# EAGLE library part ADJD-S311-CR999 (library RGB Farbsensor - ADJD-S311-CR999)
Name des Bauteiles: RGB Farbsensor Daten:I²C, RGB Avago Tech. Artikelnummer:#K061452 Datenblatt:
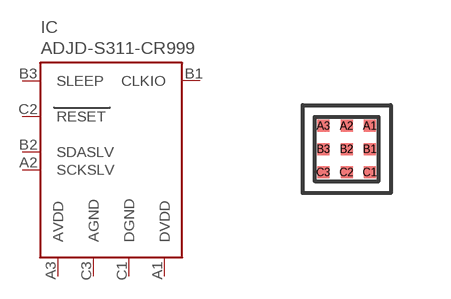
[diagram p0: symbol with the pads of ADJD-S311-CR999; footprint ADJD-S311-CR999]

Designator prefix IC

## ADJD-S311-CR999SMD  [ADJD-S311-CR999]
A1  DVDD
A2  SCKSLV
A3  AVDD
B1  CLKIO
B2  SDASLV
B3  SLEEP
C1  DGND
C2  RESET
C3  AGND

## Footprint ADJD-S311-CR999 (pad centres in mm)
smd 0.3 x 0.3: A1 1.68,1.68; A2 1.1,1.68; A3 0.52,1.68; B1 1.68,1.1; B2 1.1,1.1; B3 0.52,1.1; C1 1.68,0.52; C2 1.1,0.52; C3 0.52,0.52